# EAGLE library part LM2678 (library _RoweTel)
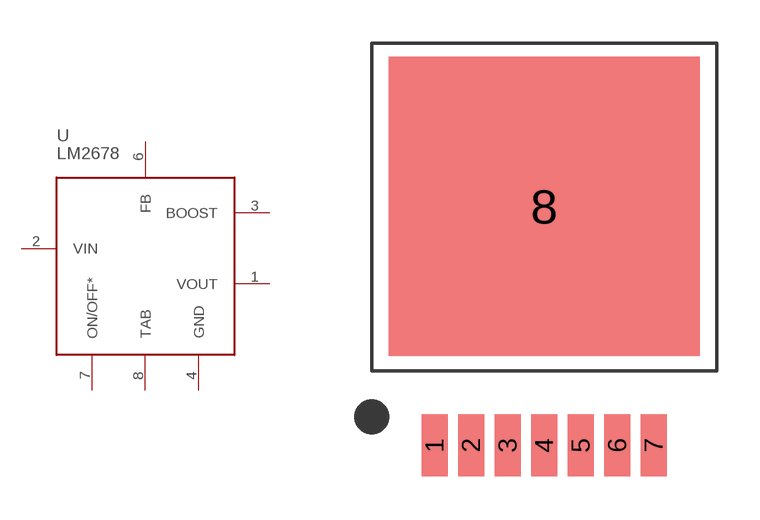
[diagram p23: symbol with the pads of TO263-7; footprint TO263-7]

Designator prefix -

## LM2678  [TO263-7]
1  VOUT
2  VIN
3  BOOST
4  GND
6  FB
7  ON/OFF*
8  TAB

## Footprint TO263-7 (pad centres in mm)
smd 0.91 x 2.16: 1 -3.81,0; 2 -2.54,0; 3 -1.27,0; 4 0,0; 5 1.27,0; 6 2.54,0; 7 3.81,0
smd 10.81 x 10.41: 8 0,8.32